# EAGLE library part CA3046 (library jason-test)
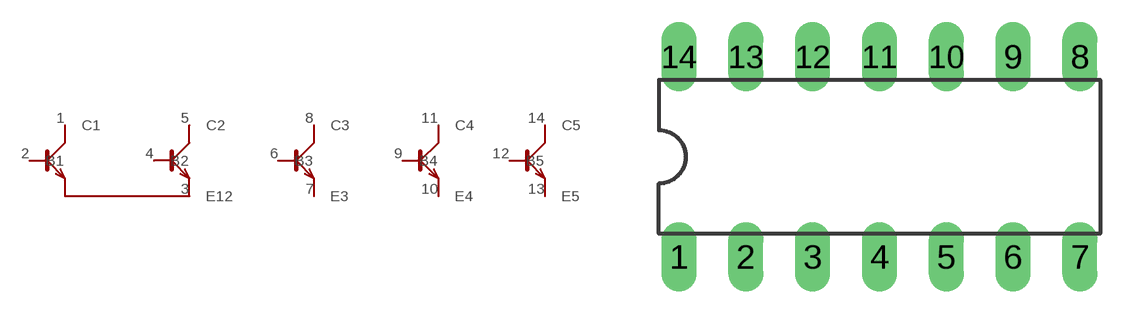
[diagram p16: symbol with the pads of DIL14; footprint DIL14]

Designator prefix -

## CA3046DIL  [DIL14]
1  C1
2  B1
3  E12
4  B2
5  C2
6  B3
7  E3
8  C3
9  B4
10  E4
11  C4
12  B5
13  E5
14  C5

## Footprint DIL14 (pad centres in mm)
Dual In Line Package
drill 0.813 long: 1 -7.62,-3.81; 2 -5.08,-3.81; 3 -2.54,-3.81; 4 0,-3.81; 5 2.54,-3.81; 6 5.08,-3.81; 7 7.62,-3.81; 8 7.62,3.81; 9 5.08,3.81; 10 2.54,3.81; 11 0,3.81; 12 -2.54,3.81; 13 -5.08,3.81; 14 -7.62,3.81